# Altium schematic symbol library Devices.SchLib: 142 symbols
Pins are listed as number, name and electrical type; pins without a type are passive.

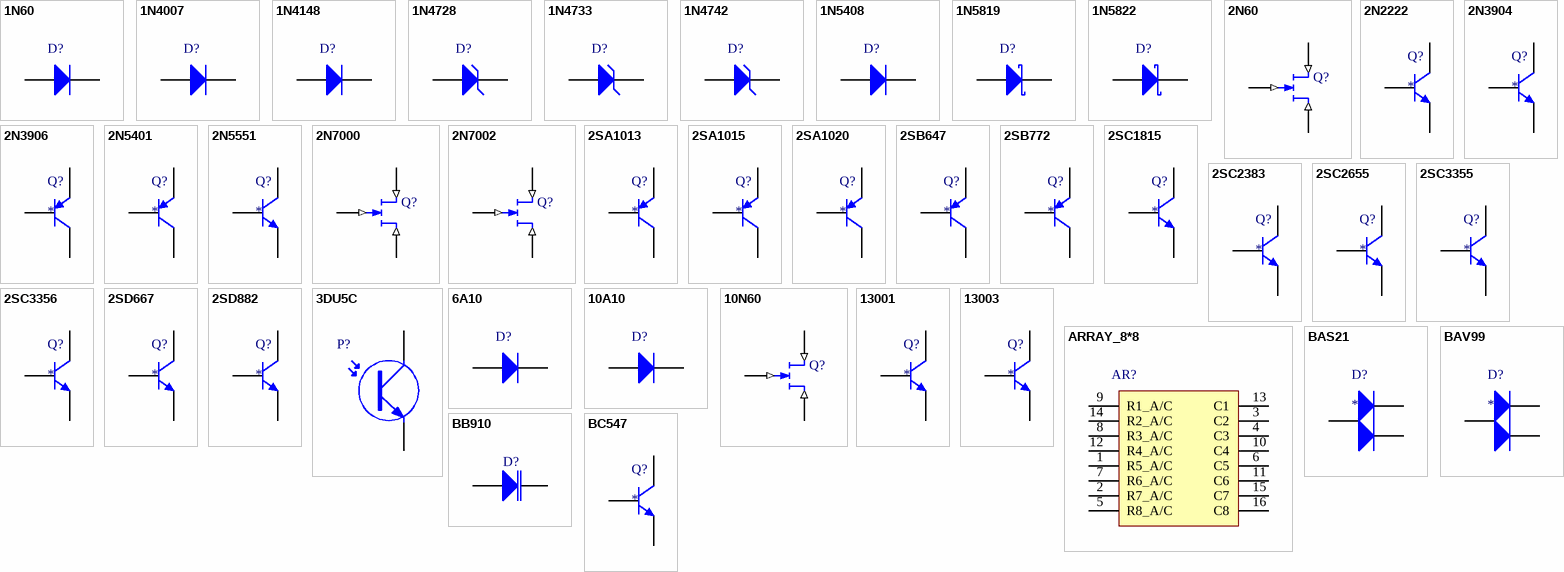
[diagram p0: symbols 1N60 to BC547]

## 1N60
designator D?
检波二极管
footprint DO-35
pins: 1 A, 2 K
1 alternate drawing of the same symbol

## 1N4007
designator D?
1A 通用整流二极管
footprint DO-41
footprint C2010 (Chip Resistor; Body 5.0 x 2.5 mm (LxW typ))
footprint 1N4007; pin to pad 1>A 2>K
pins: 1 A, 2 K

## 1N4148
designator D?
快速开关二极管
footprint DO-35
footprint C2010 (Chip Resistor; Body 5.0 x 2.5 mm (LxW typ))
footprint 1N4148_12
footprint 1N4148_AK; pin to pad 1>A 2>K
footprint C1206A (Chip Capacitor; Body 3.2 x 1.6 mm (LxW typ))
footprint C1206B; pin to pad 1>A 2>K
pins: 1 A, 2 K

## 1N4728
designator D?
1W-3.3V稳压二极管
footprint DO-35A
pins: 1 A, 2 K

## 1N4733
designator D?
1W-5V稳压二极管
footprint DO-35A
pins: 1 A, 2 K

## 1N4742
designator D?
1W-12V稳压二极管
footprint DO-35A
pins: 1 A, 2 K

## 1N5408
designator D?
整流二极管
footprint DO-201AD
pins: 1 A, 2 K

## 1N5819
designator D?
肖特基二极管
footprint DO-41
footprint C2010 (Chip Resistor; Body 5.0 x 2.5 mm (LxW typ))
pins: 1 A, 2 K

## 1N5822
designator D?
肖特基二极管
footprint DO-201AD
footprint DO-214AB (Footprint not found)
pins: 1 A, 2 K

## 2N60
designator Q?
N-Channel MESFET
footprint TO-220 (TO, Thru-Hole, Vertical, Heatsink Mounted; 3 In-Line Leads; Pitch 2.54 mm)
footprint TO220
footprint TO220L
footprint TO220p
footprint TO220W
footprint TO220W1
pins: 1 G (in), 2 D (in), 3 S (in)

## 2N2222
designator Q?
NPN 三极管
footprint TO-92-W (TO, Flat Index; 3 In-Line, Axial Leads; Body Dia. 4.5mm; Leads 0.51 x 0.48 mm (max))
footprint TO-92 (TO, Flat Index; 3 In-Line, Axial Leads; Body Dia. 4.5mm; Leads 0.51 x 0.48 mm (max))
footprint TO92
footprint TO92A; pin to pad 1>E 2>B 3>C
footprint TO92C; pin to pad 1>E 2>B 3>C
pins: 1 E, 2 B, 3 C

## 2N3904
designator Q?
NPN 三极管
footprint TO-92-W (TO, Flat Index; 3 In-Line, Axial Leads; Body Dia. 4.5mm; Leads 0.51 x 0.48 mm (max))
footprint TO-92 (TO, Flat Index; 3 In-Line, Axial Leads; Body Dia. 4.5mm; Leads 0.51 x 0.48 mm (max))
footprint SOT-23NPN
footprint SOT-89NPN
pins: 1 E, 2 B, 3 C

## 2N3906
designator Q?
PNP 三极管
footprint TO-92 (TO, Flat Index; 3 In-Line, Axial Leads; Body Dia. 4.5mm; Leads 0.51 x 0.48 mm (max))
footprint TO-92-W (TO, Flat Index; 3 In-Line, Axial Leads; Body Dia. 4.5mm; Leads 0.51 x 0.48 mm (max))
footprint SOT-23PNP
footprint SOT-89PNP
pins: 1 E, 2 B, 3 C

## 2N5401
designator Q?
PNP 三极管
footprint TO-92 (TO, Flat Index; 3 In-Line, Axial Leads; Body Dia. 4.5mm; Leads 0.51 x 0.48 mm (max))
footprint TO-92-W (TO, Flat Index; 3 In-Line, Axial Leads; Body Dia. 4.5mm; Leads 0.51 x 0.48 mm (max))
pins: 1 E, 2 B, 3 C

## 2N5551
designator Q?
NPN 三极管
footprint TO-92 (TO, Flat Index; 3 In-Line, Axial Leads; Body Dia. 4.5mm; Leads 0.51 x 0.48 mm (max))
footprint TO-92-W (TO, Flat Index; 3 In-Line, Axial Leads; Body Dia. 4.5mm; Leads 0.51 x 0.48 mm (max))
pins: 1 E, 2 B, 3 C

## 2N7000
designator Q?
N-Channel MESFET
footprint TO-92 (TO, Flat Index; 3 In-Line, Axial Leads; Body Dia. 4.5mm; Leads 0.51 x 0.48 mm (max))
pins: 1 S (in), 2 G (in), 3 D (in)

## 2N7002
designator Q?
N-Channel MESFET
footprint SOT-23 (SOT-23; 3 Leads; Body 3.0 x 2.6 mm, inc. leads (LxW max))
pins: 1 S (in), 2 G (in), 3 D (in)

## 2SA1013
designator Q?
PNP 三极管
footprint TO-92 (TO, Flat Index; 3 In-Line, Axial Leads; Body Dia. 4.5mm; Leads 0.51 x 0.48 mm (max))
footprint TO-92-W (TO, Flat Index; 3 In-Line, Axial Leads; Body Dia. 4.5mm; Leads 0.51 x 0.48 mm (max))
pins: 1 E, 2 C, 3 B

## 2SA1015
designator Q?
PNP 三极管
footprint TO-92 (TO, Flat Index; 3 In-Line, Axial Leads; Body Dia. 4.5mm; Leads 0.51 x 0.48 mm (max))
footprint TO-92-W (TO, Flat Index; 3 In-Line, Axial Leads; Body Dia. 4.5mm; Leads 0.51 x 0.48 mm (max))
pins: 1 E, 2 C, 3 B

## 2SA1020
designator Q?
PNP 三极管
footprint TO-92 (TO, Flat Index; 3 In-Line, Axial Leads; Body Dia. 4.5mm; Leads 0.51 x 0.48 mm (max))
footprint TO-92-W (TO, Flat Index; 3 In-Line, Axial Leads; Body Dia. 4.5mm; Leads 0.51 x 0.48 mm (max))
pins: 1 E, 2 C, 3 B

## 2SB647
designator Q?
PNP 三极管
footprint TO-92 (TO, Flat Index; 3 In-Line, Axial Leads; Body Dia. 4.5mm; Leads 0.51 x 0.48 mm (max))
footprint TO-92-W (TO, Flat Index; 3 In-Line, Axial Leads; Body Dia. 4.5mm; Leads 0.51 x 0.48 mm (max))
pins: 1 E, 2 C, 3 B

## 2SB772
designator Q?
PNP 三极管
footprint TO-126 (TO, Thru-Hole, Vertical, Heatsink Mounted; 3 In-Line Leads; Pitch 2.28 mm)
footprint SOT-89 (SOT89, 3-Leads, Body 4.5x2.4mm (max), Pitch 1.50mm, Lead Span 4.1mm, IPC Medium Density)
pins: 1 E, 2 C, 3 B

## 2SC1815
designator Q?
NPN 三极管
footprint TO-92 (TO, Flat Index; 3 In-Line, Axial Leads; Body Dia. 4.5mm; Leads 0.51 x 0.48 mm (max))
footprint TO-92-W (TO, Flat Index; 3 In-Line, Axial Leads; Body Dia. 4.5mm; Leads 0.51 x 0.48 mm (max))
pins: 1 E, 2 C, 3 B

## 2SC2383
designator Q?
NPN 三极管
footprint TO-92 (TO, Flat Index; 3 In-Line, Axial Leads; Body Dia. 4.5mm; Leads 0.51 x 0.48 mm (max))
footprint TO-92-W (TO, Flat Index; 3 In-Line, Axial Leads; Body Dia. 4.5mm; Leads 0.51 x 0.48 mm (max))
pins: 1 E, 2 C, 3 B

## 2SC2655
designator Q?
NPN 三极管
footprint TO-92 (TO, Flat Index; 3 In-Line, Axial Leads; Body Dia. 4.5mm; Leads 0.51 x 0.48 mm (max))
footprint TO-92-W (TO, Flat Index; 3 In-Line, Axial Leads; Body Dia. 4.5mm; Leads 0.51 x 0.48 mm (max))
pins: 1 E, 2 C, 3 B

## 2SC3355
designator Q?
NPN 三极管
footprint TO-92 (TO, Flat Index; 3 In-Line, Axial Leads; Body Dia. 4.5mm; Leads 0.51 x 0.48 mm (max))
footprint TO-92-W (TO, Flat Index; 3 In-Line, Axial Leads; Body Dia. 4.5mm; Leads 0.51 x 0.48 mm (max))
pins: 1 B, 2 E, 3 C

## 2SC3356
designator Q?
NPN 三极管
footprint SOT-23 (SOT-23; 3 Leads; Body 3.0 x 2.6 mm, inc. leads (LxW max))
pins: 1 E, 2 B, 3 C

## 2SD667
designator Q?
NPN 三极管
footprint TO-92 (TO, Flat Index; 3 In-Line, Axial Leads; Body Dia. 4.5mm; Leads 0.51 x 0.48 mm (max))
footprint TO-92-W (TO, Flat Index; 3 In-Line, Axial Leads; Body Dia. 4.5mm; Leads 0.51 x 0.48 mm (max))
pins: 1 E, 2 C, 3 B

## 2SD882
designator Q?
NPN 三极管
footprint TO-126 (TO, Thru-Hole, Vertical, Heatsink Mounted; 3 In-Line Leads; Pitch 2.28 mm)
footprint SOT-89 (SOT89, 3-Leads, Body 4.5x2.4mm (max), Pitch 1.50mm, Lead Span 4.1mm, IPC Medium Density)
pins: 1 E, 2 C, 3 B

## 3DU5C
designator P?
NPN 光电晶体管
footprint LED-2P-5MM
pins: 1 C, 2 E

## 6A10
designator D?
整流二极管
footprint R-6
pins: 1 A, 2 K

## 10A10
designator D?
整流二极管
footprint R-6
pins: 1 A, 2 K

## 10N60
designator Q?
N-Channel MESFET
footprint TO-220 (TO, Thru-Hole, Vertical, Heatsink Mounted; 3 In-Line Leads; Pitch 2.54 mm)
pins: 1 D (in), 2 G (in), 3 S (in)

## 13001
designator Q?
NPN 三极管
footprint TO-92 (TO, Flat Index; 3 In-Line, Axial Leads; Body Dia. 4.5mm; Leads 0.51 x 0.48 mm (max))
footprint TO-92-W (TO, Flat Index; 3 In-Line, Axial Leads; Body Dia. 4.5mm; Leads 0.51 x 0.48 mm (max))
pins: 1 B, 2 C, 3 E

## 13003
designator Q?
NPN 三极管
footprint TO-126 (TO, Thru-Hole, Vertical, Heatsink Mounted; 3 In-Line Leads; Pitch 2.28 mm)
pins: 1 B, 2 C, 3 E

## ARRAY_8*8
designator AR?
8*8点阵
footprint ARRAY_8*8_20
footprint ARRAY_8*8_38
pins: 1 R5_A/C, 2 R7_A/C, 3 C2, 4 C3, 5 R8_A/C, 6 C5, 7 R6_A/C, 8 R3_A/C, 9 R1_A/C, 10 C4, 11 C6, 12 R4_A/C, 13 C1, 14 R2_A/C, 15 C7, 16 C8

## BAS21
designator D?
二极管
footprint SOT-23 (SOT-23; 3 Leads; Body 3.0 x 2.6 mm, inc. leads (LxW max))
pins: 1 K, 2 K, 3 A

## BAV99
designator D?
二极管
footprint SOT-23 (SOT-23; 3 Leads; Body 3.0 x 2.6 mm, inc. leads (LxW max))
pins: 1 K, 2 K, 3 A

## BB910
designator D?
变容二极管
footprint PIN2-2.54 (Photosensitive Diode; 2 Leads)
pins: 1 A, 2 K

## BC547
designator Q?
NPN 三极管
footprint TO-92 (TO, Flat Index; 3 In-Line, Axial Leads; Body Dia. 4.5mm; Leads 0.51 x 0.48 mm (max))
footprint TO-92-W (TO, Flat Index; 3 In-Line, Axial Leads; Body Dia. 4.5mm; Leads 0.51 x 0.48 mm (max))
pins: 1 C, 2 B, 3 E

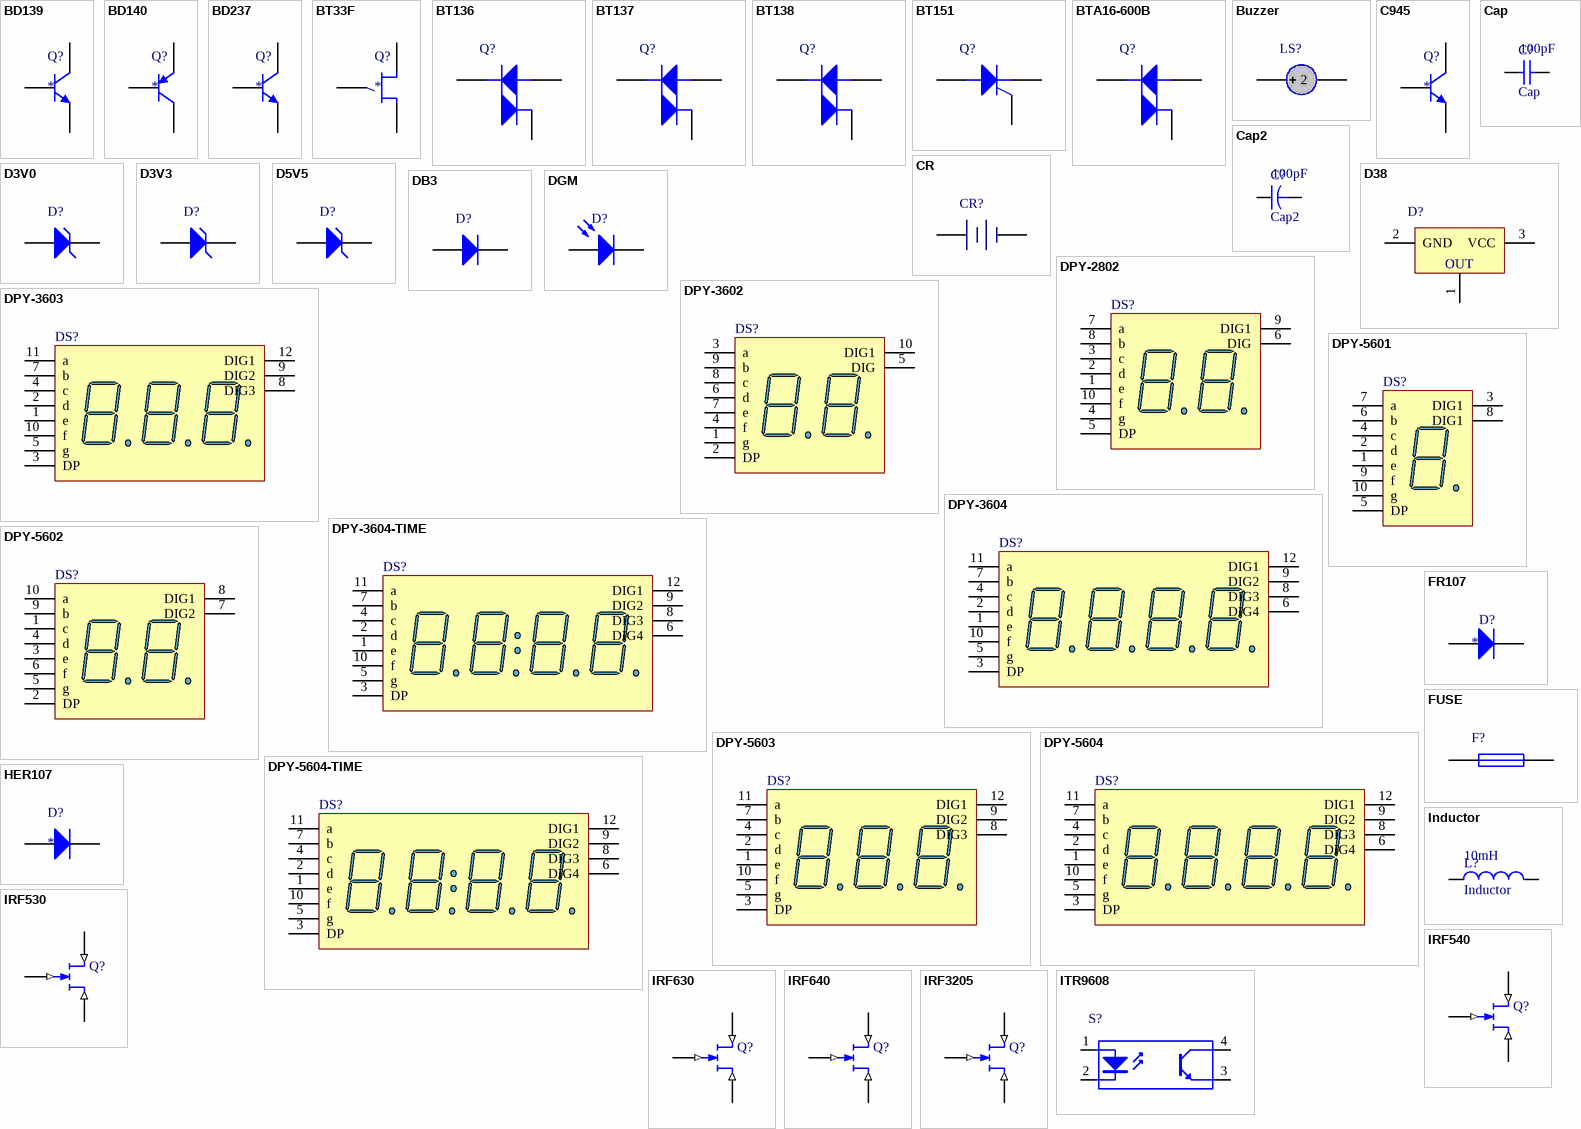
[diagram p1: symbols BD139 to ITR9608]

## BD139
designator Q?
NPN 三极管
footprint TO-126 (TO, Thru-Hole, Vertical, Heatsink Mounted; 3 In-Line Leads; Pitch 2.28 mm)
pins: 1 E, 2 C, 3 B

## BD140
designator Q?
PNP 三极管
footprint TO-126 (TO, Thru-Hole, Vertical, Heatsink Mounted; 3 In-Line Leads; Pitch 2.28 mm)
pins: 1 E, 2 C, 3 B

## BD237
designator Q?
NPN 三极管
footprint TO-126 (TO, Thru-Hole, Vertical, Heatsink Mounted; 3 In-Line Leads; Pitch 2.28 mm)
pins: 1 E, 2 C, 3 B

## BT33F
designator Q?
单结晶体管（金封）
pins: 1 E, 2 b1, 3 b2

## BT136
designator Q?
双向可控硅
footprint TO-220 (TO, Thru-Hole, Vertical, Heatsink Mounted; 3 In-Line Leads; Pitch 2.54 mm)
pins: 1 MT1, 2 MT2, 3 G

## BT137
designator Q?
双向可控硅
footprint TO-220 (TO, Thru-Hole, Vertical, Heatsink Mounted; 3 In-Line Leads; Pitch 2.54 mm)
pins: 1 MT1, 2 MT2, 3 G

## BT138
designator Q?
双向可控硅
footprint TO-220 (TO, Thru-Hole, Vertical, Heatsink Mounted; 3 In-Line Leads; Pitch 2.54 mm)
pins: 1 MT1, 2 MT2, 3 G

## BT151
designator Q?
单向可控硅
footprint TO-220 (TO, Thru-Hole, Vertical, Heatsink Mounted; 3 In-Line Leads; Pitch 2.54 mm)
pins: 1 K, 2 A, 3 G

## BTA16-600B
designator Q?
双向可控硅
footprint TO-220 (TO, Thru-Hole, Vertical, Heatsink Mounted; 3 In-Line Leads; Pitch 2.54 mm)
pins: 1 MT1, 2 MT2, 3 G

## Buzzer
designator LS?
蜂鸣
footprint Buzzer
pins: 1, 2

## C945
designator Q?
NPN 三极管
footprint TO-92-W (TO, Flat Index; 3 In-Line, Axial Leads; Body Dia. 4.5mm; Leads 0.51 x 0.48 mm (max))
footprint TO-92 (TO, Flat Index; 3 In-Line, Axial Leads; Body Dia. 4.5mm; Leads 0.51 x 0.48 mm (max))
pins: 1 E, 2 C, 3 B

## Cap
designator C?  value 100pF
Capacitor; Published: 8-Jun-2000; LatestRevisionDate: 17-Jul-2002; LatestRevisionNote: Re-released for DXP Platform.; PackageReference: RAD-0.3; Publisher: Altium Limited; PackageDescription: Radial Cap, Thru-Hole; 2 Leads; 0.3 in Pin Spacing
footprint C0805
footprint C1210 (Chip Capacitor; Body 3.2 x 2.5 mm (LxW typ))
footprint C1206A (Chip Capacitor; Body 3.2 x 1.6 mm (LxW typ))
footprint C1206B; pin to pad 1>A 2>K
footprint C2010 (Chip Resistor; Body 5.0 x 2.5 mm (LxW typ))
footprint C2812 (Chip Capacitor; Body 4.5 x 3.2 mm (LxW typ))
footprint CAP_120mil
footprint CAP_195mil
footprint PIN2-2.54 (湿敏电阻、低压瓷片电容)
footprint PIN2-4.00 (涤纶电容)
footprint PIN2-5.08 (独石、涤纶、高压瓷片及黄色校正电容)
pins: 1, 2

## Cap2
designator C?  value 100pF
Capacitor; Published: 23-Sep-2002; PackageReference: CAPR5-4X5; Publisher: Altium Limited; PackageDescription: Capacitor; 2 Leads
footprint CAP-4.2 (Capacitor, Electrolytic, Radial; Body 4 x 5 mm (Dia.xH typ); Pin Spacing 1.5 mm (typ))
footprint CAP-4.2-W (Capacitor, Electrolytic, Radial; Body 4 x 5 mm (Dia.xH typ); Pin Spacing 1.5 mm (typ))
footprint CAP-5.2 (Capacitor, Electrolytic, Radial; Body 5 x 6.8 mm (Dia.xH typ); Pin Spacing 2 mm (typ))
footprint CAP-8.2
footprint CAP-6.5
footprint CAP-6.5-SM
footprint CAP-10.5
footprint CAP-13.2 (Polarized Capacitor (Radial); 2 Leads)
footprint CAP-15 (Polarized Capacitor (Radial); 2 Leads)
footprint CAP-15UF/50V
footprint CAP-16 (Capacitor, Electrolytic, Radial; Body 16 x 35 mm (Dia.xH typ); Pin Spacing 7.5 mm (typ))
footprint CAP-220UF-25V/SMD
footprint CAP-B-170(90mil)
footprint CAP-B-210(90mil)
footprint CAP-B-250(160mil)
footprint CAP-B-290(120mil)
footprint CAP-B-360(150mil)
footprint CAP-B-410(200mil)
footprint CAP-B-480(255mil)
footprint CAP-B-610(300mil)
pins: 1, 2

## CR
designator CR?
电池座
footprint BATTERY-1020
footprint CR2032
footprint BATTERY-2032
footprint CR1220
pins: 1 VCC (power), 2 GND (power)

## D3V0
designator D?
0.5W-3V稳压二极管
footprint DO-35
footprint C1206B; pin to pad 1>A 2>K
footprint C1206A (Chip Capacitor; Body 3.2 x 1.6 mm (LxW typ))
pins: 1 A, 2 K

## D3V3
designator D?
0.5W-3.3V稳压二极管
footprint DO-35
footprint C1206A (Chip Capacitor; Body 3.2 x 1.6 mm (LxW typ))
footprint C1206B; pin to pad 1>A 2>K
pins: 1 A, 2 K

## D5V5
designator D?
0.5W-5.1V稳压二极管
footprint DO-35
footprint C1206A (Chip Capacitor; Body 3.2 x 1.6 mm (LxW typ))
footprint C1206B; pin to pad 1>A 2>K
pins: 1 A, 2 K

## D38
designator D?
一体化万能接收头
footprint D0038-1
footprint D0038-2
footprint D1838
footprint D1838-H3 (Connector; Header; 3 Position)
pins: 1 OUT, 2 GND (power), 3 VCC (power)

## DB3
designator D?
触发二极管
footprint DO-35
pins: 1 A, 2 K

## DGM
designator D?
光敏二极管
footprint LED-2P-5MM
pins: 1 A, 2 K

## DPY-2802
designator DS?
0.28英寸2位数码管; MinimumIntensity: 2020 ucd; Note: IF = 10 mA; Colour: Blue; Published: 8-Jun-2000; LatestRevisionDate: 17-Dec-2003; LatestRevisionNote: Schematic revised, PCB Footprint replaced.; DatasheetDocument: 24-Sep-2002; PackageDocument: 24-Sep-2002; PackageReference: H; Publisher: Altium Limited; ComponentLink1Description: Manufacturer Link; ComponentLink1URL: http://www.agilent.com/
footprint DPY-2802
pins: 1 e "Anode", 2 d "Anode", 3 c "Anode", 4 g "Anode", 5 DP "Anode", 6 DIG "Common Cathode", 7 a "Anode", 8 b "Anode", 9 DIG1 "Common Cathode", 10 f "Anode"

## DPY-3602
designator DS?
0.36英寸2位数码管; MinimumIntensity: 2020 ucd; Note: IF = 10 mA; Colour: Blue; Published: 8-Jun-2000; LatestRevisionDate: 17-Dec-2003; LatestRevisionNote: Schematic revised, PCB Footprint replaced.; DatasheetDocument: 24-Sep-2002; PackageDocument: 24-Sep-2002; PackageReference: H; Publisher: Altium Limited; ComponentLink1Description: Manufacturer Link; ComponentLink1URL: http://www.agilent.com/
footprint DPY-3602
pins: 1 g "Anode", 2 DP "Anode", 3 a "Anode", 4 f "Anode", 5 DIG "Common Cathode", 6 d "Anode", 7 e "Anode", 8 c "Anode", 9 b "Anode", 10 DIG1 "Common Cathode"

## DPY-3603
designator DS?
0.36英寸3位数码管; MinimumIntensity: 2020 ucd; Note: IF = 10 mA; Colour: Blue; Published: 8-Jun-2000; LatestRevisionDate: 17-Dec-2003; LatestRevisionNote: Schematic revised, PCB Footprint replaced.; DatasheetDocument: 24-Sep-2002; PackageDocument: 24-Sep-2002; PackageReference: H; Publisher: Altium Limited; ComponentLink1Description: Manufacturer Link; ComponentLink1URL: http://www.agilent.com/
footprint DPY-3603
pins: 1 e "Cathode", 2 d "Cathode", 3 DP "Cathode", 4 c "Cathode", 5 g "Cathode", 7 b "Cathode", 8 DIG3 "Common Anode", 9 DIG2 "Common Anode", 10 f "Cathode", 11 a "Cathode", 12 DIG1 "Common Anode"

## DPY-3604
designator DS?
0.36英寸4位数码管; MinimumIntensity: 2020 ucd; Note: IF = 10 mA; Colour: Blue; Published: 8-Jun-2000; LatestRevisionDate: 17-Dec-2003; LatestRevisionNote: Schematic revised, PCB Footprint replaced.; DatasheetDocument: 24-Sep-2002; PackageDocument: 24-Sep-2002; PackageReference: H; Publisher: Altium Limited; ComponentLink1Description: Manufacturer Link; ComponentLink1URL: http://www.agilent.com/
footprint DPY-3604
pins: 1 e "Cathode", 2 d "Cathode", 3 DP "Cathode", 4 c "Cathode", 5 g "Cathode", 6 DIG4 "Common Anode", 7 b "Cathode", 8 DIG3 "Common Anode", 9 DIG2 "Common Anode", 10 f "Cathode", 11 a "Cathode", 12 DIG1 "Common Anode"

## DPY-3604-TIME
designator DS?
0.36英寸4位时间格式数码管; MinimumIntensity: 2020 ucd; Note: IF = 10 mA; Colour: Blue; Published: 8-Jun-2000; LatestRevisionDate: 17-Dec-2003; LatestRevisionNote: Schematic revised, PCB Footprint replaced.; DatasheetDocument: 24-Sep-2002; PackageDocument: 24-Sep-2002; PackageReference: H; Publisher: Altium Limited; ComponentLink1Description: Manufacturer Link; ComponentLink1URL: http://www.agilent.com/
footprint DPY-3604
pins: 1 e "Cathode", 2 d "Cathode", 3 DP "Cathode", 4 c "Cathode", 5 g "Cathode", 6 DIG4 "Common Anode", 7 b "Cathode", 8 DIG3 "Common Anode", 9 DIG2 "Common Anode", 10 f "Cathode", 11 a "Cathode", 12 DIG1 "Common Anode"

## DPY-5601
designator DS?
0.56英寸1位数码管; MinimumIntensity: 2020 ucd; Note: IF = 10 mA; Colour: Blue; Published: 8-Jun-2000; LatestRevisionDate: 17-Dec-2003; LatestRevisionNote: Schematic revised, PCB Footprint replaced.; DatasheetDocument: 24-Sep-2002; PackageDocument: 24-Sep-2002; PackageReference: H; Publisher: Altium Limited; ComponentLink1Description: Manufacturer Link; ComponentLink1URL: http://www.agilent.com/
footprint DPY-5601
pins: 1 e "Cathode", 2 d "Cathode", 3 DIG1 "Common Anode", 4 c "Cathode", 5 DP "Cathode", 6 b "Cathode", 7 a "Cathode", 8 DIG1 "Common Anode", 9 f "Cathode", 10 g "Cathode"

## DPY-5602
designator DS?
0.56英寸2位数码管; MinimumIntensity: 2020 ucd; Note: IF = 10 mA; Colour: Blue; Published: 8-Jun-2000; LatestRevisionDate: 17-Dec-2003; LatestRevisionNote: Schematic revised, PCB Footprint replaced.; DatasheetDocument: 24-Sep-2002; PackageDocument: 24-Sep-2002; PackageReference: H; Publisher: Altium Limited; ComponentLink1Description: Manufacturer Link; ComponentLink1URL: http://www.agilent.com/
footprint DPY-5602
pins: 1 c "Cathode", 2 DP "Cathode", 3 e "Cathode", 4 d "Cathode", 5 g "Cathode", 6 f "Cathode", 7 DIG2 "Common Anode", 8 DIG1 "Common Anode", 9 b "Cathode", 10 a "Cathode"

## DPY-5603
designator DS?
0.56英寸3位数码管; MinimumIntensity: 2020 ucd; Note: IF = 10 mA; Colour: Blue; Published: 8-Jun-2000; LatestRevisionDate: 17-Dec-2003; LatestRevisionNote: Schematic revised, PCB Footprint replaced.; DatasheetDocument: 24-Sep-2002; PackageDocument: 24-Sep-2002; PackageReference: H; Publisher: Altium Limited; ComponentLink1Description: Manufacturer Link; ComponentLink1URL: http://www.agilent.com/
footprint DPY-5603
pins: 1 e "Cathode", 2 d "Cathode", 3 DP "Cathode", 4 c "Cathode", 5 g "Cathode", 7 b "Cathode", 8 DIG3 "Common Anode", 9 DIG2 "Common Anode", 10 f "Cathode", 11 a "Cathode", 12 DIG1 "Common Anode"

## DPY-5604
designator DS?
0.56英寸4位数码管; MinimumIntensity: 2020 ucd; Note: IF = 10 mA; Colour: Blue; Published: 8-Jun-2000; LatestRevisionDate: 17-Dec-2003; LatestRevisionNote: Schematic revised, PCB Footprint replaced.; DatasheetDocument: 24-Sep-2002; PackageDocument: 24-Sep-2002; PackageReference: H; Publisher: Altium Limited; ComponentLink1Description: Manufacturer Link; ComponentLink1URL: http://www.agilent.com/
footprint DPY-5604
pins: 1 e "Cathode", 2 d "Cathode", 3 DP "Cathode", 4 c "Cathode", 5 g "Cathode", 6 DIG4 "Common Anode", 7 b "Cathode", 8 DIG3 "Common Anode", 9 DIG2 "Common Anode", 10 f "Cathode", 11 a "Cathode", 12 DIG1 "Common Anode"

## DPY-5604-TIME
designator DS?
0.56英寸4位时间格式数码管; MinimumIntensity: 2020 ucd; Note: IF = 10 mA; Colour: Blue; Published: 8-Jun-2000; LatestRevisionDate: 17-Dec-2003; LatestRevisionNote: Schematic revised, PCB Footprint replaced.; DatasheetDocument: 24-Sep-2002; PackageDocument: 24-Sep-2002; PackageReference: H; Publisher: Altium Limited; ComponentLink1Description: Manufacturer Link; ComponentLink1URL: http://www.agilent.com/
footprint DPY-5604
pins: 1 e "Cathode", 2 d "Cathode", 3 DP "Cathode", 4 c "Cathode", 5 g "Cathode", 6 DIG4 "Common Anode", 7 b "Cathode", 8 DIG3 "Common Anode", 9 DIG2 "Common Anode", 10 f "Cathode", 11 a "Cathode", 12 DIG1 "Common Anode"

## FR107
designator D?
快速恢复二极管
footprint DO-41
pins: 1 A, 2 K

## FUSE
designator F?
保险
footprint 1812A
footprint AXIAL-0.6
footprint AXIAL-0.7
footprint 1812B (Chip Capacitor; Body 4.5 x 3.2 mm (LxW typ))
footprint 0805
pins: 1, 2

## HER107
designator D?
快速整流二极管
footprint DO-41
pins: 1 A, 2 K

## Inductor
designator L?  value 10mH
Code_IEC: 1005; Published: 8-Jun-2000; LatestRevisionDate: 29-May-2009; LatestRevisionNote: IPC-7351 Footprint Added.; PackageReference: 0402-A; Publisher: Altium Limited; PackageDescription: Chip Inductor; Code_JEITA: 0402
footprint IND-4mm
footprint IND-5mm
footprint IND-7MM
footprint IND-9MM
footprint IND-12*12 T (SOD-123; 2 Leads; Body 2.7 x 1.6 mm, (LxW))
footprint IND-Winding
pins: 1, 2

## IRF530
designator Q?
N-Channel MESFET; Published: 8-Jun-2000; LatestRevisionDate: 17-Jul-2002; LatestRevisionNote: Re-released for DXP Platform.; PackageReference: TO-18; Publisher: Altium Limited; Code_JEDEC: TO-18
footprint TO-220 (TO, Thru-Hole, Vertical, Heatsink Mounted; 3 In-Line Leads; Pitch 2.54 mm)
pins: 1 G (in), 2 D (in), 3 S (in)

## IRF540
designator Q?
N-Channel MESFET; Published: 8-Jun-2000; LatestRevisionDate: 17-Jul-2002; LatestRevisionNote: Re-released for DXP Platform.; PackageReference: TO-18; Publisher: Altium Limited; Code_JEDEC: TO-18
footprint TO-220 (TO, Thru-Hole, Vertical, Heatsink Mounted; 3 In-Line Leads; Pitch 2.54 mm)
pins: 1 G (in), 2 D (in), 3 S (in)

## IRF630
designator Q?
N-Channel MESFET; Published: 8-Jun-2000; LatestRevisionDate: 17-Jul-2002; LatestRevisionNote: Re-released for DXP Platform.; PackageReference: TO-18; Publisher: Altium Limited; Code_JEDEC: TO-18
footprint TO-220 (TO, Thru-Hole, Vertical, Heatsink Mounted; 3 In-Line Leads; Pitch 2.54 mm)
pins: 1 G (in), 2 D (in), 3 S (in)

## IRF640
designator Q?
N-Channel MESFET; Published: 8-Jun-2000; LatestRevisionDate: 17-Jul-2002; LatestRevisionNote: Re-released for DXP Platform.; PackageReference: TO-18; Publisher: Altium Limited; Code_JEDEC: TO-18
footprint TO-220 (TO, Thru-Hole, Vertical, Heatsink Mounted; 3 In-Line Leads; Pitch 2.54 mm)
pins: 1 G (in), 2 D (in), 3 S (in)

## IRF3205
designator Q?
N-Channel MESFET
footprint TO-220 (TO, Thru-Hole, Vertical, Heatsink Mounted; 3 In-Line Leads; Pitch 2.54 mm)
pins: 1 G (in), 2 D (in), 3 S (in)

## ITR9608
designator S?
光电开关
footprint ITR9608
pins: 1 A "Anode", 2 K "Cathode", 3 E "Emitter", 4 C "Collector"

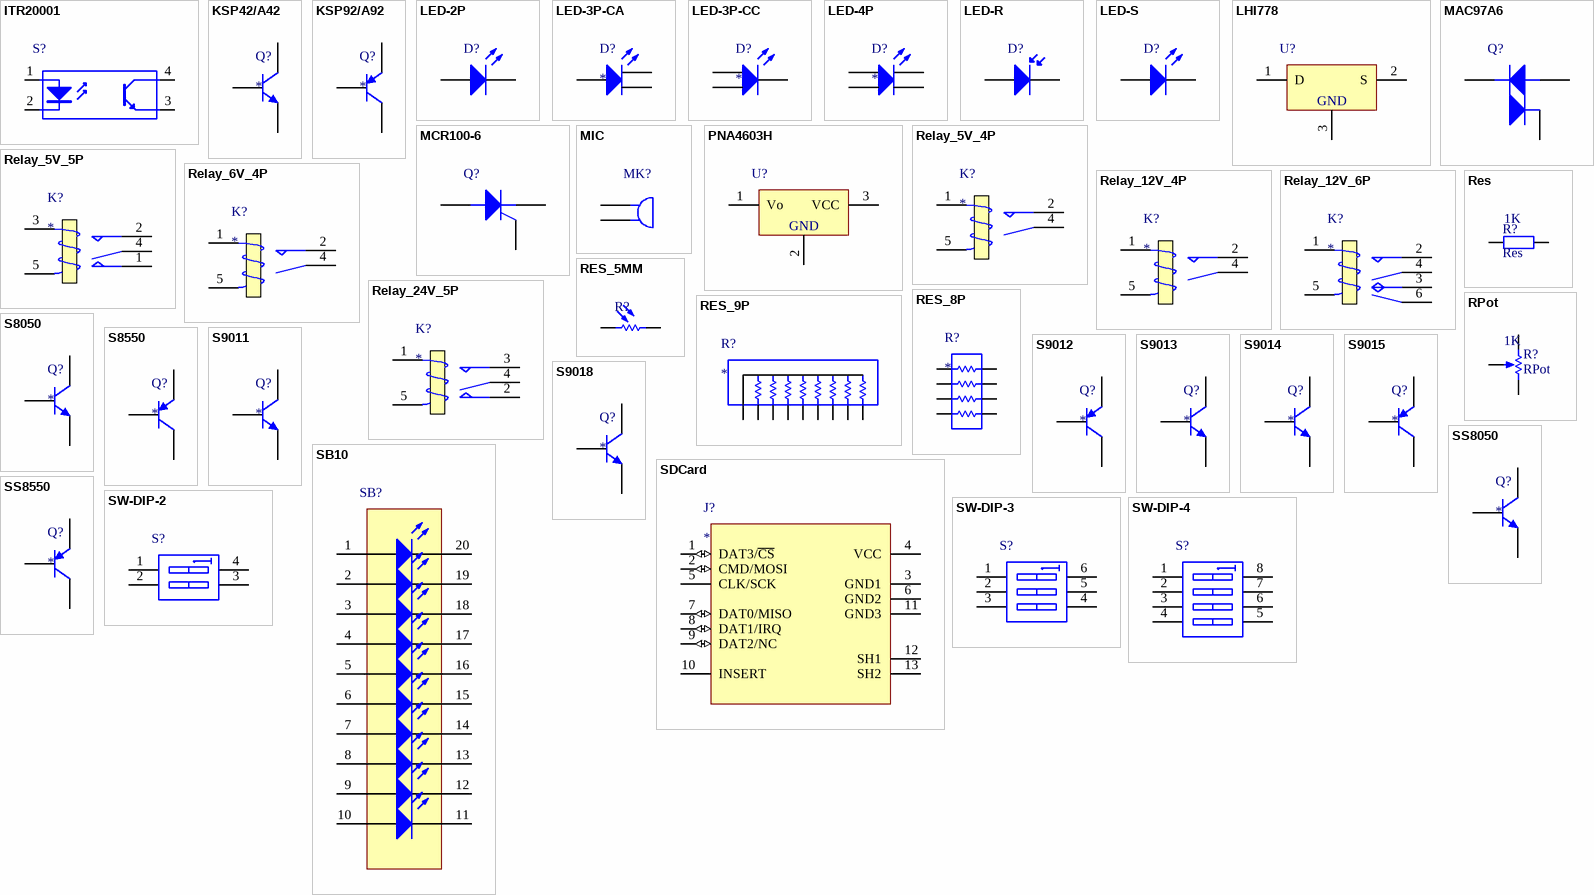
[diagram p2: symbols ITR20001 to SW-DIP-4]

## ITR20001
designator S?
光电开关
footprint ITR20001
pins: 1 A "Anode", 2 K "Cathode", 3 E "Emitter", 4 C "Collector"

## KSP42/A42
designator Q?
NPN 三极管
footprint TO-92 (TO, Flat Index; 3 In-Line, Axial Leads; Body Dia. 4.5mm; Leads 0.51 x 0.48 mm (max))
footprint TO-92-W (TO, Flat Index; 3 In-Line, Axial Leads; Body Dia. 4.5mm; Leads 0.51 x 0.48 mm (max))
pins: 1 E, 2 B, 3 C

## KSP92/A92
designator Q?
PNP 三极管
footprint TO-92 (TO, Flat Index; 3 In-Line, Axial Leads; Body Dia. 4.5mm; Leads 0.51 x 0.48 mm (max))
footprint TO-92-W (TO, Flat Index; 3 In-Line, Axial Leads; Body Dia. 4.5mm; Leads 0.51 x 0.48 mm (max))
pins: 1 E, 2 B, 3 C

## LED-2P
designator D?
发光二极管
footprint LED-2P-3MM
footprint LED-2P-5MM
footprint C0805 (Chip Capacitor; Body 2.0 x 1.2 mm (LxW typ))
footprint C1206A (Chip Capacitor; Body 3.2 x 1.6 mm (LxW typ))
footprint LED-2P-NP-5MM
footprint C1206B; pin to pad 1>A 2>K
footprint LED
footprint LED0.1; pin to pad 1>A 2>K
footprint LED3; pin to pad 1>A 2>K
footprint LED5; pin to pad 1>A 2>K
pins: 1 A, 2 K

## LED-3P-CA
designator D?
共阳双色发光二极管
footprint LED-3P-CA-5MM
footprint LED0.1D
pins: 1 K, 2 A, 3 K

## LED-3P-CC
designator D?
共阴双色发光二极管
footprint LED-3P-CC-5MM
pins: 1 A, 2 K, 3 A

## LED-4P
designator D?
发光二极管
footprint LED-4P-7MM
pins: 1 A, 2 A, 3 K, 4 K

## LED-R
designator D?
红外接收二极管
footprint LED-2P-3MM
footprint LED-2P-5MM
pins: 1 A, 2 K

## LED-S
designator D?
红外发射二极管
footprint LED-2P-3MM
footprint LED-2P-5MM
pins: 1 A, 2 K

## LHI778
designator U?
红外传感器
footprint TO-5
pins: 1 D, 2 S, 3 GND (power)

## MAC97A6
designator Q?
双向可控硅
footprint TO-92
pins: 1 MT1, 2 G, 3 MT2

## MCR100-6
designator Q?
单向可控硅
footprint TO-92 (TO, Flat Index; 3 In-Line, Axial Leads; Body Dia. 4.5mm; Leads 0.51 x 0.48 mm (max))
pins: 1 K, 2 G, 3 A

## MIC
designator MK?
麦克
footprint MIC-4*2
footprint MIC-6*5
footprint MIC-9*7
pins: 1, 2

## PNA4603H
designator U?
松下光传感器
footprint PNA4603H
pins: 1 Vo, 2 GND (power), 3 VCC (power)

## Relay_5V_4P
designator K?
继电器
footprint RELAY_5V_4P (15.4mm x 19.1mm)
pins: 1 T1, 2 NC, 4 COM, 5 T2

## Relay_5V_5P
designator K?
继电器
footprint RELAY_5V_5P (15.4mm x 19.1mm)
pins: 1 NO, 2 NC, 3 T1, 4 COM, 5 T2

## Relay_6V_4P
designator K?
继电器
footprint RELAY_6V_4P (15.4mm x 19.1mm)
pins: 1 T1, 2 NC, 4 COM, 5 T2

## Relay_12V_4P
designator K?
继电器
footprint RELAY_12V_4P (15.4mm x 19.1mm)
pins: 1 T1, 2 NC, 4 COM, 5 T2

## Relay_12V_6P
designator K?
继电器
footprint RELAY_12V_6P (15.4mm x 19.1mm)
pins: 1 T1, 2 NC, 3 NO, 4 COM, 5 T2, 6 COM

## Relay_24V_5P
designator K?
继电器
footprint RELAY_24V_5P (15.4mm x 19.1mm)
footprint RELAY_24V_5PS (15.4mm x 19.1mm)
pins: 1 T1, 2 NO, 3 NC, 4 COM, 5 T2

## Res
designator R?  value 1K
Resistor; Published: 8-Jun-2000; LatestRevisionDate: 17-Jul-2002; LatestRevisionNote: Re-released for DXP Platform.; PackageReference: AXIAL-0.3; Publisher: Altium Limited; PackageDescription: Axial Device, Thru-Hole; 2 Leads; 0.3 in Pin Spacing
footprint AXIAL-0.3 (Axial Device, Thru-Hole; 2 Leads; 0.3 in Pin Spacing)
footprint 0603
footprint 0603A
footprint 0603R
footprint 0805
footprint 1206
footprint 1210
footprint 1812A
footprint 1812B (Chip Capacitor; Body 4.5 x 3.2 mm (LxW typ))
footprint 2220
footprint 2225
footprint AXIAL-0.2 (1/6W碳膜及热敏电阻、直板独石电容)
footprint AXIAL-0.6
footprint AXIAL-0.7 (1W/2W碳膜电阻)
footprint PIN2-2.00 (热敏电阻NTC-MF52AT)
pins: 1, 2

## RES_5MM
designator R?  (value not drawn)
光敏电阻; Value: 1K; Published: 8-Jun-2000; LatestRevisionDate: 17-Jul-2002; LatestRevisionNote: Re-released for DXP Platform.; PackageReference: AXIAL-0.3; Publisher: Altium Limited
footprint RES_5MM (光敏电阻)
pins: 1, 2

## RES_8P
designator R?
贴片排阻
footprint RES_8P_0603 (贴片排阻4组8脚)
pins: 1, 2, 3, 4, 5, 6, 7, 8

## RES_9P
designator R?
直插排阻
footprint RES_H9 (直插排阻8组9脚)
pins: 1, 2, 3, 4, 5, 6, 7, 8, 9

## RPot
designator R?  value 1K
Potentiometer; Sim Note: Enter the Resistance value and the set point into parameter fields.; Set Position: 0.5; Published: 8-Jun-2000; LatestRevisionDate: 17-Jul-2002; LatestRevisionNote: Re-released for DXP Platform.; PackageReference: VR5; Publisher: Altium Limited; PackageDescription: Variable Resistor, Thru-Hole; 3 Leads
footprint VR-3296 (Potentiometer; 3 Leads)
footprint VR-3362 (Feed-Through Capacitor; 3 Leads)
footprint VR-B (Feed-Through Capacitor; 3 Leads)
footprint VR-BlueWrite
pins: 1 TOP, 2 BOT, 3 TAP
1 alternate drawing of the same symbol

## S8050
designator Q?
NPN 三极管
footprint SOT-23 (SOT-23; 3 Leads; Body 3.0 x 2.6 mm, inc. leads (LxW max))
footprint TO-92 (TO, Flat Index; 3 In-Line, Axial Leads; Body Dia. 4.5mm; Leads 0.51 x 0.48 mm (max))
footprint TO-92-W (TO, Flat Index; 3 In-Line, Axial Leads; Body Dia. 4.5mm; Leads 0.51 x 0.48 mm (max))
pins: 1 E, 2 B, 3 C

## S8550
designator Q?
PNP 三极管
footprint SOT-23 (SOT-23; 3 Leads; Body 3.0 x 2.6 mm, inc. leads (LxW max))
footprint TO-92 (TO, Flat Index; 3 In-Line, Axial Leads; Body Dia. 4.5mm; Leads 0.51 x 0.48 mm (max))
footprint TO-92-W (TO, Flat Index; 3 In-Line, Axial Leads; Body Dia. 4.5mm; Leads 0.51 x 0.48 mm (max))
pins: 1 E, 2 B, 3 C

## S9011
designator Q?
NPN 三极管
footprint TO-92 (TO, Flat Index; 3 In-Line, Axial Leads; Body Dia. 4.5mm; Leads 0.51 x 0.48 mm (max))
footprint TO-92-W (TO, Flat Index; 3 In-Line, Axial Leads; Body Dia. 4.5mm; Leads 0.51 x 0.48 mm (max))
pins: 1 E, 2 B, 3 C

## S9012
designator Q?
PNP 三极管
footprint SOT-23 (SOT-23; 3 Leads; Body 3.0 x 2.6 mm, inc. leads (LxW max))
footprint TO-92 (TO, Flat Index; 3 In-Line, Axial Leads; Body Dia. 4.5mm; Leads 0.51 x 0.48 mm (max))
footprint TO-92-W (TO, Flat Index; 3 In-Line, Axial Leads; Body Dia. 4.5mm; Leads 0.51 x 0.48 mm (max))
pins: 1 E, 2 B, 3 C

## S9013
designator Q?
NPN 三极管
footprint SOT-23 (SOT-23; 3 Leads; Body 3.0 x 2.6 mm, inc. leads (LxW max))
footprint TO-92 (TO, Flat Index; 3 In-Line, Axial Leads; Body Dia. 4.5mm; Leads 0.51 x 0.48 mm (max))
footprint TO-92-W (TO, Flat Index; 3 In-Line, Axial Leads; Body Dia. 4.5mm; Leads 0.51 x 0.48 mm (max))
pins: 1 E, 2 B, 3 C

## S9014
designator Q?
NPN 三极管
footprint TO-92 (TO, Flat Index; 3 In-Line, Axial Leads; Body Dia. 4.5mm; Leads 0.51 x 0.48 mm (max))
footprint TO-92-W (TO, Flat Index; 3 In-Line, Axial Leads; Body Dia. 4.5mm; Leads 0.51 x 0.48 mm (max))
pins: 1 E, 2 B, 3 C

## S9015
designator Q?
PNP 三极管
footprint TO-92 (TO, Flat Index; 3 In-Line, Axial Leads; Body Dia. 4.5mm; Leads 0.51 x 0.48 mm (max))
footprint TO-92-W (TO, Flat Index; 3 In-Line, Axial Leads; Body Dia. 4.5mm; Leads 0.51 x 0.48 mm (max))
pins: 1 E, 2 B, 3 C

## S9018
designator Q?
NPN 三极管
footprint TO-92-W (TO, Flat Index; 3 In-Line, Axial Leads; Body Dia. 4.5mm; Leads 0.51 x 0.48 mm (max))
footprint TO-92 (TO, Flat Index; 3 In-Line, Axial Leads; Body Dia. 4.5mm; Leads 0.51 x 0.48 mm (max))
pins: 1 E, 2 B, 3 C

## SB10
designator SB?
十段光条平面管
footprint SB10
pins: 1 A, 2 A, 3 A, 4 A, 5 A, 6 A, 7 A, 8 A, 9 A, 10 A, 11 K, 12 K, 13 K, 14 K, 15 K, 16 K, 17 K, 18 K, 19 K, 20 K

## SDCard
designator J?
SD卡座
footprint SDCARD
pins: 1 DAT3/~{CS} (io), 2 CMD/MOSI (io), 3 GND1 (power), 4 VCC (power), 5 CLK/SCK, 6 GND2 (power), 7 DAT0/MISO (io), 8 DAT1/IRQ (io), 9 DAT2/NC (io), 10 INSERT, 11 GND3 (power), 12 SH1, 13 SH2

## SS8050
designator Q?
NPN 三极管
footprint TO-92 (TO, Flat Index; 3 In-Line, Axial Leads; Body Dia. 4.5mm; Leads 0.51 x 0.48 mm (max))
footprint TO-92-W (TO, Flat Index; 3 In-Line, Axial Leads; Body Dia. 4.5mm; Leads 0.51 x 0.48 mm (max))
footprint SOT-23 (SOT-23; 3 Leads; Body 3.0 x 2.6 mm, inc. leads (LxW max))
pins: 1 E, 2 B, 3 C

## SS8550
designator Q?
PNP 三极管
footprint TO-92-W (TO, Flat Index; 3 In-Line, Axial Leads; Body Dia. 4.5mm; Leads 0.51 x 0.48 mm (max))
footprint TO-92 (TO, Flat Index; 3 In-Line, Axial Leads; Body Dia. 4.5mm; Leads 0.51 x 0.48 mm (max))
footprint SOT-23 (SOT-23; 3 Leads; Body 3.0 x 2.6 mm, inc. leads (LxW max))
pins: 1 E, 2 B, 3 C

## SW-DIP-2
designator S?
2 位拨码开关
footprint SW-DIP4
pins: 1 A1, 2 A2, 3 B2, 4 B1

## SW-DIP-3
designator S?
3 位拨码开关
footprint SW-DIP6
pins: 1 A1, 2 A2, 3 A3, 4 B3, 5 B2, 6 B1

## SW-DIP-4
designator S?
4 位拨码开关
footprint SW-DIP8 (DIP; 8 Leads; Row Spacing 7.62 mm; Pitch 2.54 mm)
pins: 1 A1, 2 A2, 3 A3, 4 A4, 5 B4, 6 B3, 7 B2, 8 B1

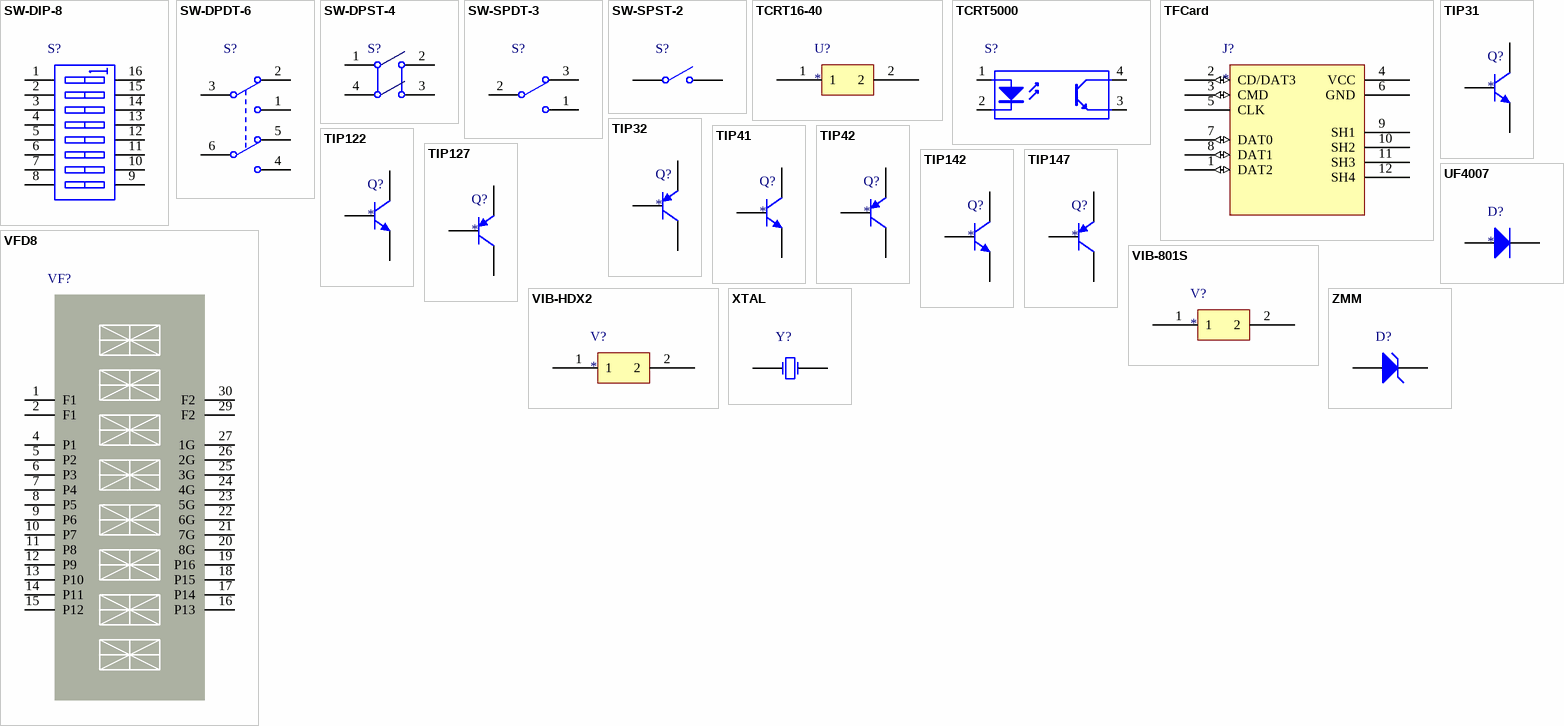
[diagram p3: symbols SW-DIP-8 to ZMM]

## SW-DIP-8
designator S?
8 位拨码开关
footprint SW-DIP16
pins: 1 A1, 2 A2, 3 A3, 4 A4, 5 A5, 6 A6, 7 A7, 8 A8, 9 B8, 10 B7, 11 B6, 12 B5, 13 B4, 14 B3, 15 B2, 16 B1

## SW-DPDT-6
designator S?
双刀双掷开关
footprint SW-DPDT-6(7*7mm) (Double-Pole, Double-Throw Switch; 6 Leads)
footprint SW-DPDT-6(8*8mm) (Double-Pole, Double-Throw Switch; 6 Leads)
pins: 1 NO1, 2 NC1, 3 COMMON1, 4 NO2, 5 NC2, 6 COMMON2

## SW-DPST-4
designator S?
双刀单掷开关
footprint SW-DPST-4(6mm) (Double-Pole, Single-Throw Switch; 4 Leads)
footprint SW-DPST-4(6mm) - SM (Double-Pole, Single-Throw Switch; 4 Leads)
footprint SW-DPST-4(12mm) - 1 (Double-Pole, Single-Throw Switch; 4 Leads)
footprint SW-DPST-4(12mm) - 2 (Double-Pole, Single-Throw Switch; 4 Leads)
pins: 1 COMMON1, 2 NO1, 3 NO2, 4 COMMON2

## SW-SPDT-3
designator S?
单刀双掷开关
footprint SW-SPDT-3(9*5)
footprint SW-SPDT-3(13*6)
footprint SW-SPDT-3(13*8)
pins: 1 NO, 2 COMMON, 3 NC

## SW-SPST-2
designator S?
单刀单掷开关
footprint SW-SPST-2(6*3.5) (Circuit Breaker; 2 Leads)
footprint SW-SPST-2(6*3.5) - H (Circuit Breaker; 2 Leads)
footprint SW-SPST-2(6*3.5) - SM (Circuit Breaker; 2 Leads)
pins: 1 COMMON, 2 NO

## TCRT16-40
designator U?
超声波
footprint TCRT16-40
pins: 1, 2

## TCRT5000
designator S?
光电开关
footprint TCRT5000
pins: 1 A "Anode", 2 K "Cathode", 3 E "Emitter", 4 C "Collector"

## TFCard
designator J?
TF卡座（MicroSD）
footprint TFCARD
pins: 1 DAT2 (io), 2 CD/DAT3 (io), 3 CMD (io), 4 VCC (power), 5 CLK, 6 GND (power), 7 DAT0 (io), 8 DAT1 (io), 9 SH1, 10 SH2, 11 SH3, 12 SH4

## TIP31
designator Q?
NPN 达林顿三极管
footprint TO-220 (TO, Thru-Hole, Vertical, Heatsink Mounted; 3 In-Line Leads; Pitch 2.54 mm)
pins: 1 B, 2 C, 3 E

## TIP32
designator Q?
PNP 达林顿三极管
footprint TO-220 (TO, Thru-Hole, Vertical, Heatsink Mounted; 3 In-Line Leads; Pitch 2.54 mm)
pins: 1 B, 2 C, 3 E

## TIP41
designator Q?
NPN 达林顿三极管
footprint TO-220 (TO, Thru-Hole, Vertical, Heatsink Mounted; 3 In-Line Leads; Pitch 2.54 mm)
pins: 1 B, 2 C, 3 E

## TIP42
designator Q?
PNP 达林顿三极管
footprint TO-220 (TO, Thru-Hole, Vertical, Heatsink Mounted; 3 In-Line Leads; Pitch 2.54 mm)
pins: 1 B, 2 C, 3 E

## TIP122
designator Q?
NPN 达林顿三极管
footprint TO-220 (TO, Thru-Hole, Vertical, Heatsink Mounted; 3 In-Line Leads; Pitch 2.54 mm)
pins: 1 B, 2 C, 3 E

## TIP127
designator Q?
PNP 达林顿三极管
footprint TO-220 (TO, Thru-Hole, Vertical, Heatsink Mounted; 3 In-Line Leads; Pitch 2.54 mm)
pins: 1 B, 2 C, 3 E

## TIP142
designator Q?
NPN 达林顿三极管
footprint TO-220 (TO, Thru-Hole, Vertical, Heatsink Mounted; 3 In-Line Leads; Pitch 2.54 mm)
pins: 1 B, 2 C, 3 E

## TIP147
designator Q?
PNP 达林顿三极管
footprint TO-220 (TO, Thru-Hole, Vertical, Heatsink Mounted; 3 In-Line Leads; Pitch 2.54 mm)
pins: 1 B, 2 C, 3 E

## UF4007
designator D?
快速整流二极管
footprint DO-41
pins: 1 A, 2 K

## VFD8
designator VF?
8位VFD荧光显示屏
footprint VFD8
pins: 1 F1, 2 F1, 4 P1, 5 P2, 6 P3, 7 P4, 8 P5, 9 P6, 10 P7, 11 P8, 12 P9, 13 P10, 14 P11, 15 P12, 16 P13, 17 P14, 18 P15, 19 P16, 20 8G, 21 7G, 22 6G, 23 5G, 24 4G, 25 3G, 26 2G, 27 1G, 29 F2, 30 F2

## VIB-801S
designator V?
震动传感器
footprint VIB-801S
pins: 1, 2

## VIB-HDX2
designator V?
震动传感器
footprint VIB-HDX2
pins: 1, 2

## XTAL
designator Y?
晶振
footprint XTAL1
footprint XTAL2 (Crystal, Thru-Hole; 2 Leads; Body 3.1 x 8.2 mm (Dia.xH))
footprint XTAL32
footprint XTAL-B
footprint XTAL0
pins: 1 OSC1, 2 OSC2

## ZMM
designator D?
稳压二极管
footprint C1206A (Chip Capacitor; Body 3.2 x 1.6 mm (LxW typ))
footprint C1206B; pin to pad 1>A 2>K
pins: 1 A, 2 K